# EAGLE library part STM32F746B-XIO (library sjg-stm32)
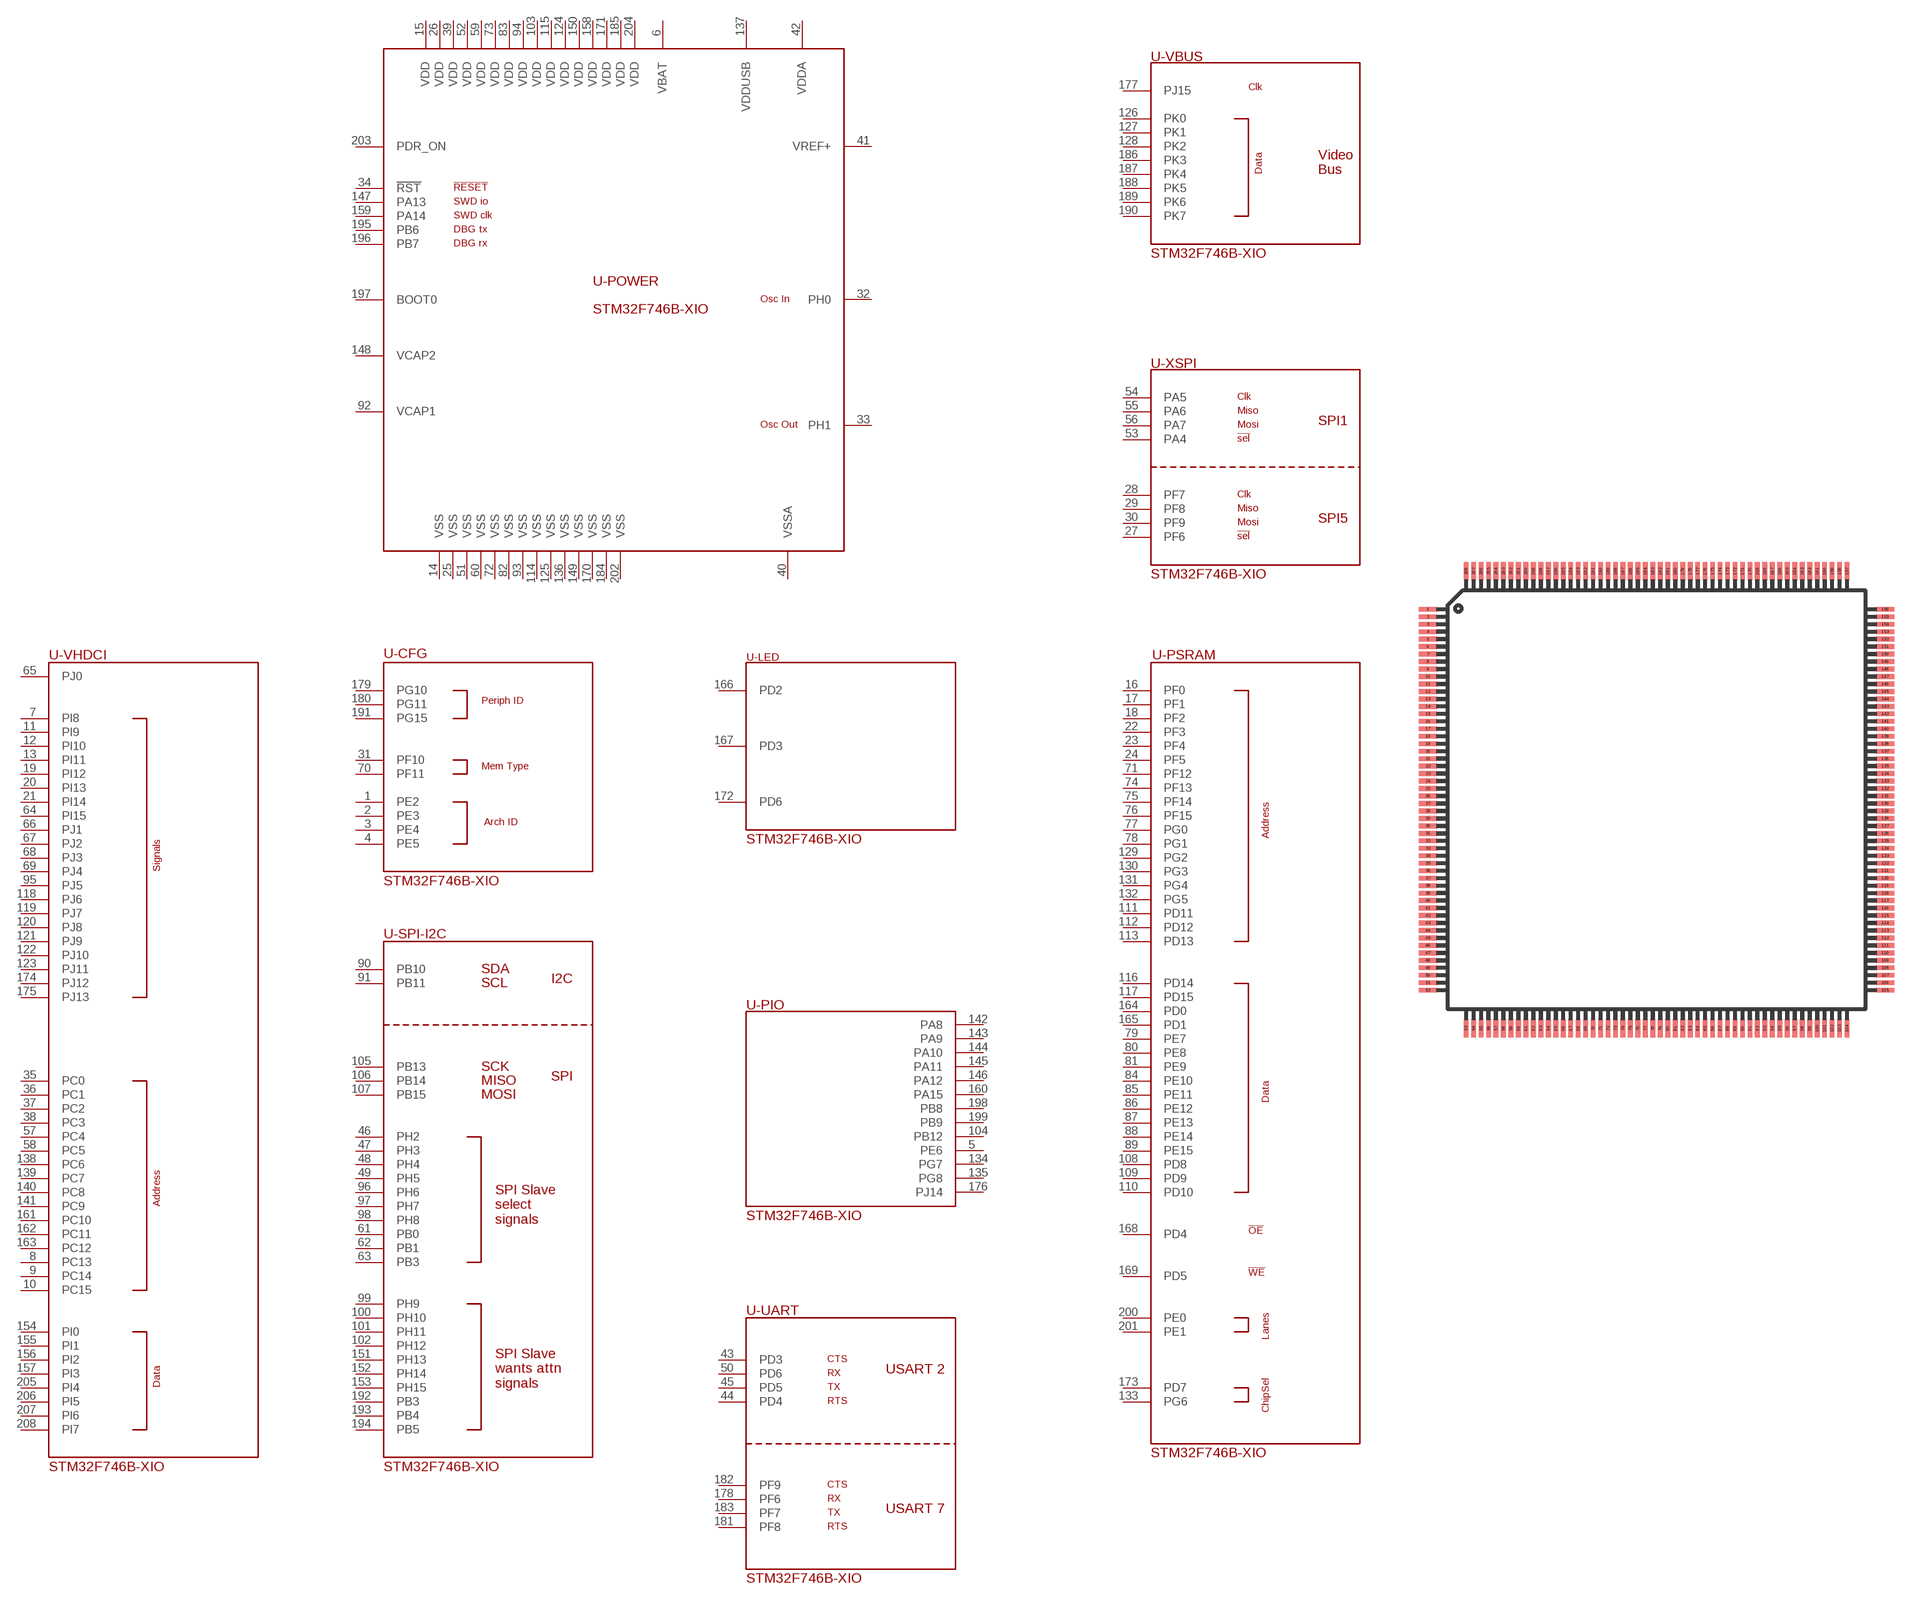
[diagram p3: symbol with the pads of PQFP208; footprint PQFP208]

Designator prefix -; gates -POWER=STM32F746B-XIO-PWR -CFG=STM32F746B-XIO-CFG -SPI-I2C=STM32F746B-XIO-I2C-SPI -LED=STM32F746B-XIO-LED -PIO=STM32F746B-XIO-PIO -PSRAM=STM32F746B-XIO-PSRAM -VHDCI=STM32F746B-XIO-VHDCI -XSPI=STM32F746B-XIO-XSPI -VBUS=STM32F746B-XIO-VBUS -UART=STM32F746B-XIO-USART

## STM32F746B-XIO  [PQFP208]
1  -CFG:PE2
2  -CFG:PE3
3  -CFG:PE4
4  -CFG:PE5
5  -PIO:PE6
6  -POWER:VBAT
7  -VHDCI:PI8
8  -VHDCI:PC13
9  -VHDCI:PC14
10  -VHDCI:PC15
11  -VHDCI:PI9
12  -VHDCI:PI10
13  -VHDCI:PI11
14  -POWER:VSS
15  -POWER:VDD
16  -PSRAM:PF0
17  -PSRAM:PF1
18  -PSRAM:PF2
19  -VHDCI:PI12
20  -VHDCI:PI13
21  -VHDCI:PI14
22  -PSRAM:PF3
23  -PSRAM:PF4
24  -PSRAM:PF5
25  -POWER:VSS
26  -POWER:VDD
27  -XSPI:PF6
28  -XSPI:PF7
29  -XSPI:PF8
30  -XSPI:PF9
31  -CFG:PF10
32  -POWER:PH0
33  -POWER:PH1
34  -POWER:!RST!
35  -VHDCI:PC0
36  -VHDCI:PC1
37  -VHDCI:PC2
38  -VHDCI:PC3
39  -POWER:VDD
40  -POWER:VSSA
41  -POWER:VREF+
42  -POWER:VDDA
43  -UART:PD3
44  -UART:PD4
45  -UART:PD5
46  -SPI-I2C:PH2
47  -SPI-I2C:PH3
48  -SPI-I2C:PH4
49  -SPI-I2C:PH5
50  -UART:PD6
51  -POWER:VSS
52  -POWER:VDD
53  -XSPI:PA4
54  -XSPI:PA5
55  -XSPI:PA6
56  -XSPI:PA7
57  -VHDCI:PC4
58  -VHDCI:PC5
59  -POWER:VDD
60  -POWER:VSS
61  -SPI-I2C:PB0
62  -SPI-I2C:PB1
63  -SPI-I2C:PB3
64  -VHDCI:PI15
65  -VHDCI:PJ0
66  -VHDCI:PJ1
67  -VHDCI:PJ2
68  -VHDCI:PJ3
69  -VHDCI:PJ4
70  -CFG:PF11
71  -PSRAM:PF12
72  -POWER:VSS
73  -POWER:VDD
74  -PSRAM:PF13
75  -PSRAM:PF14
76  -PSRAM:PF15
77  -PSRAM:PG0
78  -PSRAM:PG1
79  -PSRAM:PE7
80  -PSRAM:PE8
81  -PSRAM:PE9
82  -POWER:VSS
83  -POWER:VDD
84  -PSRAM:PE10
85  -PSRAM:PE11
86  -PSRAM:PE12
87  -PSRAM:PE13
88  -PSRAM:PE14
89  -PSRAM:PE15
90  -SPI-I2C:PB10
91  -SPI-I2C:PB11
92  -POWER:VCAP1
93  -POWER:VSS
94  -POWER:VDD
95  -VHDCI:PJ5
96  -SPI-I2C:PH6
97  -SPI-I2C:PH7
98  -SPI-I2C:PH8
99  -SPI-I2C:PH9
100  -SPI-I2C:PH10
101  -SPI-I2C:PH11
102  -SPI-I2C:PH12
103  -POWER:VDD
104  -PIO:PB12
105  -SPI-I2C:PB13
106  -SPI-I2C:PB14
107  -SPI-I2C:PB15
108  -PSRAM:PD8
109  -PSRAM:PD9
110  -PSRAM:PD10
111  -PSRAM:PD11
112  -PSRAM:PD12
113  -PSRAM:PD13
114  -POWER:VSS
115  -POWER:VDD
116  -PSRAM:PD14
117  -PSRAM:PD15
118  -VHDCI:PJ6
119  -VHDCI:PJ7
120  -VHDCI:PJ8
121  -VHDCI:PJ9
122  -VHDCI:PJ10
123  -VHDCI:PJ11
124  -POWER:VDD
125  -POWER:VSS
126  -VBUS:PK0
127  -VBUS:PK1
128  -VBUS:PK2
129  -PSRAM:PG2
130  -PSRAM:PG3
131  -PSRAM:PG4
132  -PSRAM:PG5
133  -PSRAM:PG6
134  -PIO:PG7
135  -PIO:PG8
136  -POWER:VSS
137  -POWER:VDDUSB
138  -VHDCI:PC6
139  -VHDCI:PC7
140  -VHDCI:PC8
141  -VHDCI:PC9
142  -PIO:PA8
143  -PIO:PA9
144  -PIO:PA10
145  -PIO:PA11
146  -PIO:PA12
147  -POWER:PA13
148  -POWER:VCAP2
149  -POWER:VSS
150  -POWER:VDD
151  -SPI-I2C:PH13
152  -SPI-I2C:PH14
153  -SPI-I2C:PH15
154  -VHDCI:PI0
155  -VHDCI:PI1
156  -VHDCI:PI2
157  -VHDCI:PI3
158  -POWER:VDD
159  -POWER:PA14
160  -PIO:PA15
161  -VHDCI:PC10
162  -VHDCI:PC11
163  -VHDCI:PC12
164  -PSRAM:PD0
165  -PSRAM:PD1
166  -LED:PD2
167  -LED:PD3
168  -PSRAM:PD4
169  -PSRAM:PD5
170  -POWER:VSS
171  -POWER:VDD
172  -LED:PD6
173  -PSRAM:PD7
174  -VHDCI:PJ12
175  -VHDCI:PJ13
176  -PIO:PJ14
177  -VBUS:PJ15
178  -UART:PF6
179  -CFG:PG10
180  -CFG:PG11
181  -UART:PF8
182  -UART:PF9
183  -UART:PF7
184  -POWER:VSS
185  -POWER:VDD
186  -VBUS:PK3
187  -VBUS:PK4
188  -VBUS:PK5
189  -VBUS:PK6
190  -VBUS:PK7
191  -CFG:PG15
192  -SPI-I2C:PB3
193  -SPI-I2C:PB4
194  -SPI-I2C:PB5
195  -POWER:PB6
196  -POWER:PB7
197  -POWER:BOOT0
198  -PIO:PB8
199  -PIO:PB9
200  -PSRAM:PE0
201  -PSRAM:PE1
202  -POWER:VSS
203  -POWER:PDR_ON
204  -POWER:VDD
205  -VHDCI:PI4
206  -VHDCI:PI5
207  -VHDCI:PI6
208  -VHDCI:PI7

## Footprint PQFP208 (pad centres in mm)
PLASTIC QUAD FLAT PACK
smd 1.2 x 0.32: 1 -15.3,12.75; 2 -15.3,12.25; 3 -15.3,11.75; 4 -15.3,11.25; 5 -15.3,10.75; 6 -15.3,10.25; 7 -15.3,9.75; 8 -15.3,9.25; 9 -15.3,8.75; 10 -15.3,8.25; 11 -15.3,7.75; 12 -15.3,7.25; 13 -15.3,6.75; 14 -15.3,6.25; 15 -15.3,5.75; 16 -15.3,5.25; 17 -15.3,4.75; 18 -15.3,4.25; 19 -15.3,3.75; 20 -15.3,3.25; 21 -15.3,2.75; 22 -15.3,2.25; 23 -15.3,1.75; 24 -15.3,1.25; 25 -15.3,0.75; 26 -15.3,0.25; 27 -15.3,-0.25; 28 -15.3,-0.75; 29 -15.3,-1.25; 30 -15.3,-1.75; 31 -15.3,-2.25; 32 -15.3,-2.75; 33 -15.3,-3.25; 34 -15.3,-3.75; 35 -15.3,-4.25; 36 -15.3,-4.75; 37 -15.3,-5.25; 38 -15.3,-5.75; 39 -15.3,-6.25; 40 -15.3,-6.75; 41 -15.3,-7.25; 42 -15.3,-7.75; 43 -15.3,-8.25; 44 -15.3,-8.75; 45 -15.3,-9.25; 46 -15.3,-9.75; 47 -15.3,-10.25; 48 -15.3,-10.75; 49 -15.3,-11.25; 50 -15.3,-11.75; 51 -15.3,-12.25; 52 -15.3,-12.75; 105 15.3,-12.75; 106 15.3,-12.25; 107 15.3,-11.75; 108 15.3,-11.25; 109 15.3,-10.75; 110 15.3,-10.25; 111 15.3,-9.75; 112 15.3,-9.25; 113 15.3,-8.75; 114 15.3,-8.25; 115 15.3,-7.75; 116 15.3,-7.25; 117 15.3,-6.75; 118 15.3,-6.25; 119 15.3,-5.75; 120 15.3,-5.25; 121 15.3,-4.75; 122 15.3,-4.25; 123 15.3,-3.75; 124 15.3,-3.25; 125 15.3,-2.75; 126 15.3,-2.25; 127 15.3,-1.75; 128 15.3,-1.25; 129 15.3,-0.75; 130 15.3,-0.25; 131 15.3,0.25; 132 15.3,0.75; 133 15.3,1.25; 134 15.3,1.75; 135 15.3,2.25; 136 15.3,2.75; 137 15.3,3.25; 138 15.3,3.75; 139 15.3,4.25; 140 15.3,4.75; 141 15.3,5.25; 142 15.3,5.75; 143 15.3,6.25; 144 15.3,6.75; 145 15.3,7.25; 146 15.3,7.75; 147 15.3,8.25; 148 15.3,8.75; 149 15.3,9.25; 150 15.3,9.75; 151 15.3,10.25; 152 15.3,10.75; 153 15.3,11.25; 154 15.3,11.75; 155 15.3,12.25; 156 15.3,12.75
smd 0.32 x 1.2: 53 -12.75,-15.3; 54 -12.25,-15.3; 55 -11.75,-15.3; 56 -11.25,-15.3; 57 -10.75,-15.3; 58 -10.25,-15.3; 59 -9.75,-15.3; 60 -9.25,-15.3; 61 -8.75,-15.3; 62 -8.25,-15.3; 63 -7.75,-15.3; 64 -7.25,-15.3; 65 -6.75,-15.3; 66 -6.25,-15.3; 67 -5.75,-15.3; 68 -5.25,-15.3; 69 -4.75,-15.3; 70 -4.25,-15.3; 71 -3.75,-15.3; 72 -3.25,-15.3; 73 -2.75,-15.3; 74 -2.25,-15.3; 75 -1.75,-15.3; 76 -1.25,-15.3; 77 -0.75,-15.3; 78 -0.25,-15.3; 79 0.25,-15.3; 80 0.75,-15.3; 81 1.25,-15.3; 82 1.75,-15.3; 83 2.25,-15.3; 84 2.75,-15.3; 85 3.25,-15.3; 86 3.75,-15.3; 87 4.25,-15.3; 88 4.75,-15.3; 89 5.25,-15.3; 90 5.75,-15.3; 91 6.25,-15.3; 92 6.75,-15.3; 93 7.25,-15.3; 94 7.75,-15.3; 95 8.25,-15.3; 96 8.75,-15.3; 97 9.25,-15.3; 98 9.75,-15.3; 99 10.25,-15.3; 100 10.75,-15.3; 101 11.25,-15.3; 102 11.75,-15.3; 103 12.25,-15.3; 104 12.75,-15.3; 157 12.75,15.3; 158 12.25,15.3; 159 11.75,15.3; 160 11.25,15.3; 161 10.75,15.3; 162 10.25,15.3; 163 9.75,15.3; 164 9.25,15.3; 165 8.75,15.3; 166 8.25,15.3; 167 7.75,15.3; 168 7.25,15.3; 169 6.75,15.3; 170 6.25,15.3; 171 5.75,15.3; 172 5.25,15.3; 173 4.75,15.3; 174 4.25,15.3; 175 3.75,15.3; 176 3.25,15.3; 177 2.75,15.3; 178 2.25,15.3; 179 1.75,15.3; 180 1.25,15.3; 181 0.75,15.3; 182 0.25,15.3; 183 -0.25,15.3; 184 -0.75,15.3; 185 -1.25,15.3; 186 -1.75,15.3; 187 -2.25,15.3; 188 -2.75,15.3; 189 -3.25,15.3; 190 -3.75,15.3; 191 -4.25,15.3; 192 -4.75,15.3; 193 -5.25,15.3; 194 -5.75,15.3; 195 -6.25,15.3; 196 -6.75,15.3; 197 -7.25,15.3; 198 -7.75,15.3; 199 -8.25,15.3; 200 -8.75,15.3; 201 -9.25,15.3; 202 -9.75,15.3; 203 -10.25,15.3; 204 -10.75,15.3; 205 -11.25,15.3; 206 -11.75,15.3; 207 -12.25,15.3; 208 -12.75,15.3